# Altium footprint library PCB - LEADLESS - QFN - ST UFQFPN28 4x4MM.PcbLib: 1 footprints
Each footprint in its own frame and in the unit in brackets; x right, y up, seen from the top. Pads: shape width x height; smd on the part's side, far side on the other; paste and mask are expansions set on the pad; w line width, h text height; cw(c..) or ccw(c..) is an arc to the next point about the centre after c.
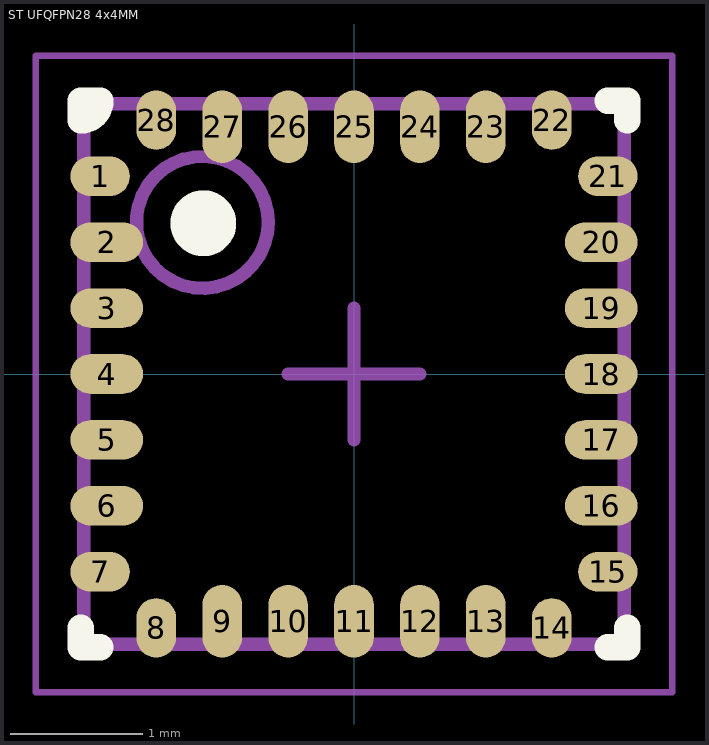
[diagram p0: the footprint, top view; thin cyan lines are the x and y axes]

## ST UFQFPN28 4x4MM [mm] "QFN, 28-Leads, Body 4.00x4.00mm, Pitch 0.50mm, IPC Medium Density"
height 0.6
pads (28):
  oval 0.45x0.3 smd: 1(-1.925,1.5) 7(-1.925,-1.5) 15(1.925,-1.5) 21(1.925,1.5)
  oval 0.55x0.3 smd: 2(-1.875,1) 3(-1.875,0.5) 4(-1.875,0) 5(-1.875,-0.5) 6(-1.875,-1) 16(1.875,-1) 17(1.875,-0.5) 18(1.875,0) 19(1.875,0.5) 20(1.875,1)
  oval 0.3x0.45 smd: 8(-1.5,-1.925) 14(1.5,-1.925) 22(1.5,1.925) 28(-1.5,1.925)
  oval 0.3x0.55 smd: 9(-1,-1.875) 10(-0.5,-1.875) 11(0,-1.875) 12(0.5,-1.875) 13(1,-1.875) 23(1,1.875) 24(0.5,1.875) 25(0,1.875) 26(-0.5,1.875) 27(-1,1.875)
Top Overlay:
  circle w0.25: c-1.143,1.143 r0.125
  lines w0.2: -2.073,-1.923 -2.073,-2.073 -1.923,-2.073 ; 1.923,-2.073 2.073,-2.073 2.073,-1.923 ; 1.923,2.073 2.073,2.073 2.073,1.923 ; -2.073,1.923 ccw(c-2.073,2.073) -1.923,2.073 -2.073,2.073 -2.073,1.923
Mechanical 13:
  circle w0.1: c-1.15,1.15 r0.5
  lines w0.1: -2.05,-2.05 -2.05,2.05 2.05,2.05 2.05,-2.05 -2.05,-2.05
Mechanical 15:
  lines w0.05: -2.413,-2.413 -2.413,2.413 2.413,2.413 2.413,-2.413 -2.413,-2.413
  lines w0.1: -0.5,0 0.5,0 ; 0,-0.5 0,0.5
3D body: height 0.6, standoff 0.01, extent -2.05,-2.05 2.05,2.05